# Altium integrated library G3Lib3.Intlib: 2 symbols
Pins are listed as number, name and electrical type; pins without a type are passive.

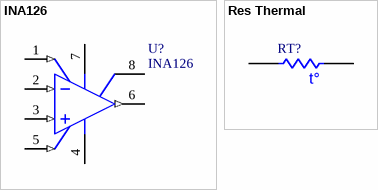
[diagram p0: symbols INA126 to Res Thermal]

## INA126
designator U?
Micropower Instrumentation Amplifier; Note: Case is internally connected to V-; Published: 8-Jun-2000; LatestRevisionDate: 17-Jul-2002; LatestRevisionNote: Re-released for DXP Platform.; DatasheetVersion: Aug-1999; PackageVersion: revB; PackageReference: 001B; Publisher: Altium Limited; PackageDescription: Can; 8 Leads; Pin Circle Dia. 5.08 mm (TO-99); Lead Dia. 0.53 mm (max); ComponentLink1Description: Manufacturer Link; ComponentLink1URL: http://www.ti.com/; ComponentLink2Description: Datasheet; ComponentLink2URL: http://www-s.ti.com/sc/ds/INA117.pdf
simulation model INA126 (TINA)
pins: 1 REFB (in), 2 IN- (in), 3 IN+ (in), 4 V- (power), 5 REFA (in), 6 OUT (out), 7 V+ (power), 8 COMP

## Res Thermal
designator RT?
Thermistor; Published: 24-Mar-1999; LatestRevisionDate: 29-May-2009; LatestRevisionNote: IPC-7351 Footprint Added.; PackageVersion: Mar-2003; PackageReference: 6-0805; Publisher: Altium Limited; PackageDescription: Chip Resistor 0805 Case Size; Code_IPC: RESC2012
simulation model NTC_10K (Thermistor)
pins: 1, 2
text: t°